# EAGLE library part SW8X8PPLOCK (library mECustom)
Standard Self Lock Push Pull Switch (DPDT) Package: 8x8 mm size Standard Chinese Package
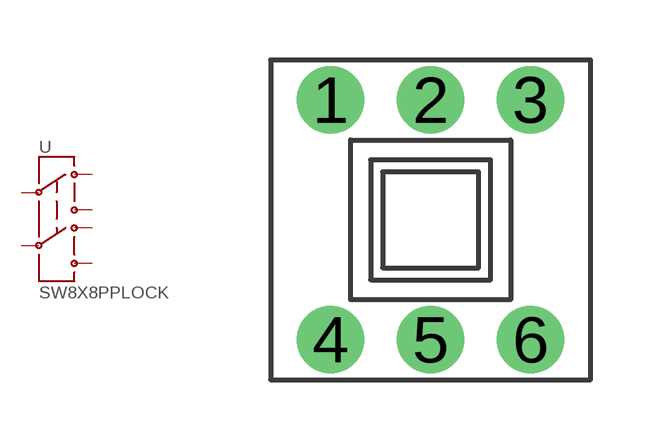
[diagram p4: symbol with the pads of PP8X8MM; footprint PP8X8MM]

Designator prefix -

## SW8X8PPLOCK  [PP8X8MM]
1  1
2  2
3  3
4  4
5  5
6  6

## Footprint PP8X8MM (pad centres in mm)
drill 0.9 pad 1.676: 1 -2.69,3.19; 2 -0.19,3.19; 3 2.31,3.19; 4 -2.69,-2.81; 5 -0.19,-2.81; 6 2.31,-2.81